# Altium footprint library BGA (1.0mm Pitch, Square5).PcbLib: 8 footprints (part 2 of 6)
Each footprint in its own frame and in the unit in brackets; x right, y up, seen from the top. Pads: shape width x height; smd on the part's side, far side on the other; paste and mask are expansions set on the pad; w line width, h text height; cw(c..) or ccw(c..) is an arc to the next point about the centre after c.
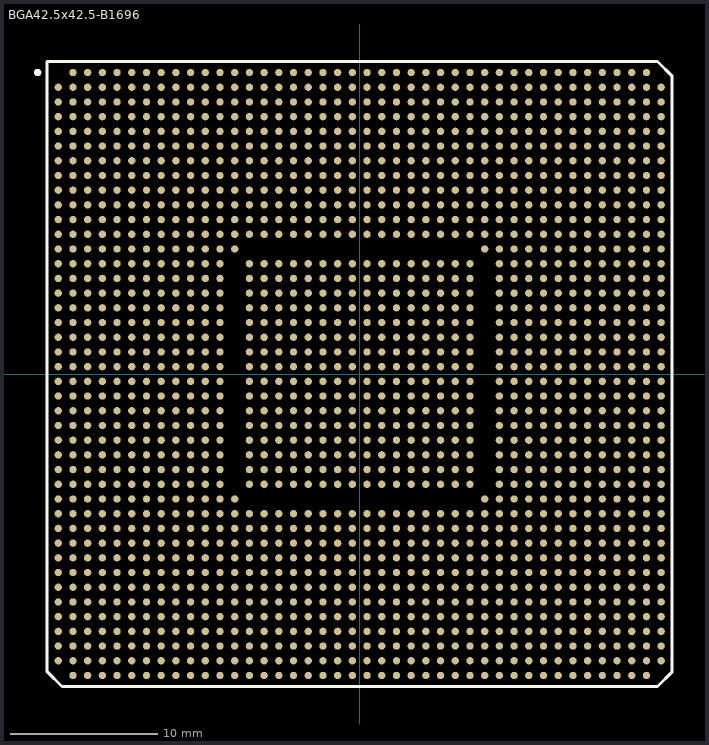
[diagram p1: the footprint, top view; thin cyan lines are the x and y axes]

## BGA42.5x42.5-B1696 [mm] "1696-Ball Flip-Chip Fine-Pitch Ball Grid Array (FF1696)"
height 3.45
pads (1696):
  round 0.5 smd: A2(-19.5,20.5) A3(-18.5,20.5) A4(-17.5,20.5) A5(-16.5,20.5) A6(-15.5,20.5) A7(-14.5,20.5) A8(-13.5,20.5) A9(-12.5,20.5) A10(-11.5,20.5) A11(-10.5,20.5) A12(-9.5,20.5) A13(-8.5,20.5) A14(-7.5,20.5) A15(-6.5,20.5) A16(-5.5,20.5) A17(-4.5,20.5) A18(-3.5,20.5) A19(-2.5,20.5) A20(-1.5,20.5) A21(-0.5,20.5) A22(0.5,20.5) A23(1.5,20.5) A24(2.5,20.5) A25(3.5,20.5) A26(4.5,20.5) A27(5.5,20.5) A28(6.5,20.5) A29(7.5,20.5) A30(8.5,20.5) A31(9.5,20.5) A32(10.5,20.5) A33(11.5,20.5) A34(12.5,20.5) A35(13.5,20.5) A36(14.5,20.5) A37(15.5,20.5) A38(16.5,20.5) A39(17.5,20.5) A40(18.5,20.5) A41(19.5,20.5) AA1(-20.5,0.5) AA2(-19.5,0.5) AA3(-18.5,0.5) AA4(-17.5,0.5) AA5(-16.5,0.5) AA6(-15.5,0.5) AA7(-14.5,0.5) AA8(-13.5,0.5) AA9(-12.5,0.5) AA10(-11.5,0.5) AA11(-10.5,0.5) AA12(-9.5,0.5) AA14(-7.5,0.5) AA15(-6.5,0.5) AA16(-5.5,0.5) AA17(-4.5,0.5) AA18(-3.5,0.5) AA19(-2.5,0.5) AA20(-1.5,0.5) AA21(-0.5,0.5) AA22(0.5,0.5) AA23(1.5,0.5) AA24(2.5,0.5) AA25(3.5,0.5) AA26(4.5,0.5) AA27(5.5,0.5) AA28(6.5,0.5) AA29(7.5,0.5) AA31(9.5,0.5) AA32(10.5,0.5) AA33(11.5,0.5) AA34(12.5,0.5) AA35(13.5,0.5) AA36(14.5,0.5) AA37(15.5,0.5) AA38(16.5,0.5) AA39(17.5,0.5) AA40(18.5,0.5) AA41(19.5,0.5) AA42(20.5,0.5) AB1(-20.5,-0.5) AB2(-19.5,-0.5) AB3(-18.5,-0.5) AB4(-17.5,-0.5) AB5(-16.5,-0.5) AB6(-15.5,-0.5) AB7(-14.5,-0.5) AB8(-13.5,-0.5) AB9(-12.5,-0.5) AB10(-11.5,-0.5) AB11(-10.5,-0.5) AB12(-9.5,-0.5) AB14(-7.5,-0.5) AB15(-6.5,-0.5) AB16(-5.5,-0.5) AB17(-4.5,-0.5) AB18(-3.5,-0.5) AB19(-2.5,-0.5) AB20(-1.5,-0.5) AB21(-0.5,-0.5) AB22(0.5,-0.5) AB23(1.5,-0.5) AB24(2.5,-0.5) AB25(3.5,-0.5) AB26(4.5,-0.5) AB27(5.5,-0.5) AB28(6.5,-0.5) AB29(7.5,-0.5) AB31(9.5,-0.5) AB32(10.5,-0.5) AB33(11.5,-0.5) AB34(12.5,-0.5) AB35(13.5,-0.5) AB36(14.5,-0.5) AB37(15.5,-0.5) AB38(16.5,-0.5) AB39(17.5,-0.5) AB40(18.5,-0.5) AB41(19.5,-0.5) AB42(20.5,-0.5) AC1(-20.5,-1.5) AC2(-19.5,-1.5) AC3(-18.5,-1.5) AC4(-17.5,-1.5) AC5(-16.5,-1.5) AC6(-15.5,-1.5) AC7(-14.5,-1.5) AC8(-13.5,-1.5) AC9(-12.5,-1.5) AC10(-11.5,-1.5) AC11(-10.5,-1.5) AC12(-9.5,-1.5) AC14(-7.5,-1.5) AC15(-6.5,-1.5) AC16(-5.5,-1.5) AC17(-4.5,-1.5) AC18(-3.5,-1.5) AC19(-2.5,-1.5) AC20(-1.5,-1.5) AC21(-0.5,-1.5) AC22(0.5,-1.5) AC23(1.5,-1.5) AC24(2.5,-1.5) AC25(3.5,-1.5) AC26(4.5,-1.5) AC27(5.5,-1.5) AC28(6.5,-1.5) AC29(7.5,-1.5) AC31(9.5,-1.5) AC32(10.5,-1.5) AC33(11.5,-1.5) AC34(12.5,-1.5) AC35(13.5,-1.5) AC36(14.5,-1.5) AC37(15.5,-1.5) AC38(16.5,-1.5) AC39(17.5,-1.5) AC40(18.5,-1.5) AC41(19.5,-1.5) AC42(20.5,-1.5) AD1(-20.5,-2.5) AD2(-19.5,-2.5) AD3(-18.5,-2.5) AD4(-17.5,-2.5) AD5(-16.5,-2.5) AD6(-15.5,-2.5) AD7(-14.5,-2.5) AD8(-13.5,-2.5) AD9(-12.5,-2.5) AD10(-11.5,-2.5) AD11(-10.5,-2.5) AD12(-9.5,-2.5) AD14(-7.5,-2.5) AD15(-6.5,-2.5) AD16(-5.5,-2.5) AD17(-4.5,-2.5) AD18(-3.5,-2.5) AD19(-2.5,-2.5) AD20(-1.5,-2.5) AD21(-0.5,-2.5) AD22(0.5,-2.5) AD23(1.5,-2.5) AD24(2.5,-2.5) AD25(3.5,-2.5) AD26(4.5,-2.5) AD27(5.5,-2.5) AD28(6.5,-2.5) AD29(7.5,-2.5) AD31(9.5,-2.5) AD32(10.5,-2.5) AD33(11.5,-2.5) AD34(12.5,-2.5) AD35(13.5,-2.5) AD36(14.5,-2.5) AD37(15.5,-2.5) AD38(16.5,-2.5) AD39(17.5,-2.5) AD40(18.5,-2.5) AD41(19.5,-2.5) AD42(20.5,-2.5) AE1(-20.5,-3.5) AE2(-19.5,-3.5) AE3(-18.5,-3.5) AE4(-17.5,-3.5) AE5(-16.5,-3.5) AE6(-15.5,-3.5) AE7(-14.5,-3.5) AE8(-13.5,-3.5) AE9(-12.5,-3.5) AE10(-11.5,-3.5) AE11(-10.5,-3.5) AE12(-9.5,-3.5) AE14(-7.5,-3.5) AE15(-6.5,-3.5) AE16(-5.5,-3.5) AE17(-4.5,-3.5) AE18(-3.5,-3.5) AE19(-2.5,-3.5) AE20(-1.5,-3.5) AE21(-0.5,-3.5) AE22(0.5,-3.5) AE23(1.5,-3.5) AE24(2.5,-3.5) AE25(3.5,-3.5) AE26(4.5,-3.5) AE27(5.5,-3.5) AE28(6.5,-3.5) AE29(7.5,-3.5) AE31(9.5,-3.5) AE32(10.5,-3.5) AE33(11.5,-3.5) AE34(12.5,-3.5) AE35(13.5,-3.5) AE36(14.5,-3.5) AE37(15.5,-3.5) AE38(16.5,-3.5) AE39(17.5,-3.5) AE40(18.5,-3.5) AE41(19.5,-3.5) AE42(20.5,-3.5) AF1(-20.5,-4.5) AF2(-19.5,-4.5) AF3(-18.5,-4.5) AF4(-17.5,-4.5) AF5(-16.5,-4.5) AF6(-15.5,-4.5) AF7(-14.5,-4.5) AF8(-13.5,-4.5) AF9(-12.5,-4.5) AF10(-11.5,-4.5) AF11(-10.5,-4.5) AF12(-9.5,-4.5) AF14(-7.5,-4.5) AF15(-6.5,-4.5) AF16(-5.5,-4.5) AF17(-4.5,-4.5) AF18(-3.5,-4.5) AF19(-2.5,-4.5) AF20(-1.5,-4.5) AF21(-0.5,-4.5) AF22(0.5,-4.5) AF23(1.5,-4.5) AF24(2.5,-4.5) AF25(3.5,-4.5) AF26(4.5,-4.5) AF27(5.5,-4.5) AF28(6.5,-4.5) AF29(7.5,-4.5) AF31(9.5,-4.5) AF32(10.5,-4.5) AF33(11.5,-4.5) AF34(12.5,-4.5) AF35(13.5,-4.5) AF36(14.5,-4.5) AF37(15.5,-4.5) AF38(16.5,-4.5) AF39(17.5,-4.5) AF40(18.5,-4.5) AF41(19.5,-4.5) AF42(20.5,-4.5) AG1(-20.5,-5.5) AG2(-19.5,-5.5) AG3(-18.5,-5.5) AG4(-17.5,-5.5) AG5(-16.5,-5.5) AG6(-15.5,-5.5) AG7(-14.5,-5.5) AG8(-13.5,-5.5) AG9(-12.5,-5.5) AG10(-11.5,-5.5) AG11(-10.5,-5.5) AG12(-9.5,-5.5) AG14(-7.5,-5.5) AG15(-6.5,-5.5) AG16(-5.5,-5.5) AG17(-4.5,-5.5) AG18(-3.5,-5.5) AG19(-2.5,-5.5) AG20(-1.5,-5.5) AG21(-0.5,-5.5) AG22(0.5,-5.5) AG23(1.5,-5.5) AG24(2.5,-5.5) AG25(3.5,-5.5) AG26(4.5,-5.5) AG27(5.5,-5.5) AG28(6.5,-5.5) AG29(7.5,-5.5) AG31(9.5,-5.5) AG32(10.5,-5.5) AG33(11.5,-5.5) AG34(12.5,-5.5) AG35(13.5,-5.5) AG36(14.5,-5.5) AG37(15.5,-5.5) AG38(16.5,-5.5) AG39(17.5,-5.5) AG40(18.5,-5.5) AG41(19.5,-5.5) AG42(20.5,-5.5) AH1(-20.5,-6.5) AH2(-19.5,-6.5) AH3(-18.5,-6.5) AH4(-17.5,-6.5) AH5(-16.5,-6.5) AH6(-15.5,-6.5) AH7(-14.5,-6.5) AH8(-13.5,-6.5) AH9(-12.5,-6.5) AH10(-11.5,-6.5) AH11(-10.5,-6.5) AH12(-9.5,-6.5) AH14(-7.5,-6.5) AH15(-6.5,-6.5) AH16(-5.5,-6.5) AH17(-4.5,-6.5) AH18(-3.5,-6.5) AH19(-2.5,-6.5) AH20(-1.5,-6.5) AH21(-0.5,-6.5) AH22(0.5,-6.5) AH23(1.5,-6.5) AH24(2.5,-6.5) AH25(3.5,-6.5) AH26(4.5,-6.5) AH27(5.5,-6.5) AH28(6.5,-6.5) AH29(7.5,-6.5) AH31(9.5,-6.5) AH32(10.5,-6.5) AH33(11.5,-6.5) AH34(12.5,-6.5) AH35(13.5,-6.5) AH36(14.5,-6.5) AH37(15.5,-6.5) AH38(16.5,-6.5) AH39(17.5,-6.5) AH40(18.5,-6.5) AH41(19.5,-6.5) AH42(20.5,-6.5) AJ1(-20.5,-7.5) AJ2(-19.5,-7.5) AJ3(-18.5,-7.5) AJ4(-17.5,-7.5) AJ5(-16.5,-7.5) AJ6(-15.5,-7.5) AJ7(-14.5,-7.5) AJ8(-13.5,-7.5) AJ9(-12.5,-7.5) AJ10(-11.5,-7.5) AJ11(-10.5,-7.5) AJ12(-9.5,-7.5) AJ14(-7.5,-7.5) AJ15(-6.5,-7.5) AJ16(-5.5,-7.5) AJ17(-4.5,-7.5) AJ18(-3.5,-7.5) AJ19(-2.5,-7.5) AJ20(-1.5,-7.5) AJ21(-0.5,-7.5) AJ22(0.5,-7.5) AJ23(1.5,-7.5) AJ24(2.5,-7.5) AJ25(3.5,-7.5) AJ26(4.5,-7.5) AJ27(5.5,-7.5) AJ28(6.5,-7.5) AJ29(7.5,-7.5) AJ31(9.5,-7.5) AJ32(10.5,-7.5) AJ33(11.5,-7.5) AJ34(12.5,-7.5) AJ35(13.5,-7.5) AJ36(14.5,-7.5) AJ37(15.5,-7.5) AJ38(16.5,-7.5) AJ39(17.5,-7.5) AJ40(18.5,-7.5) AJ41(19.5,-7.5) AJ42(20.5,-7.5) AK1(-20.5,-8.5) AK2(-19.5,-8.5) AK3(-18.5,-8.5) AK4(-17.5,-8.5) AK5(-16.5,-8.5) AK6(-15.5,-8.5) AK7(-14.5,-8.5) AK8(-13.5,-8.5) AK9(-12.5,-8.5) AK10(-11.5,-8.5) AK11(-10.5,-8.5) AK12(-9.5,-8.5) AK13(-8.5,-8.5) AK30(8.5,-8.5) AK31(9.5,-8.5) AK32(10.5,-8.5) AK33(11.5,-8.5) AK34(12.5,-8.5) AK35(13.5,-8.5) AK36(14.5,-8.5) AK37(15.5,-8.5) AK38(16.5,-8.5) AK39(17.5,-8.5) AK40(18.5,-8.5) AK41(19.5,-8.5) AK42(20.5,-8.5) AL1(-20.5,-9.5) AL2(-19.5,-9.5) AL3(-18.5,-9.5) AL4(-17.5,-9.5) AL5(-16.5,-9.5) AL6(-15.5,-9.5) AL7(-14.5,-9.5) AL8(-13.5,-9.5) AL9(-12.5,-9.5) AL10(-11.5,-9.5) AL11(-10.5,-9.5) AL12(-9.5,-9.5) AL13(-8.5,-9.5) AL14(-7.5,-9.5) AL15(-6.5,-9.5) AL16(-5.5,-9.5) AL17(-4.5,-9.5) AL18(-3.5,-9.5) AL19(-2.5,-9.5) AL20(-1.5,-9.5) AL21(-0.5,-9.5) AL22(0.5,-9.5) AL23(1.5,-9.5) AL24(2.5,-9.5) AL25(3.5,-9.5) AL26(4.5,-9.5) AL27(5.5,-9.5) AL28(6.5,-9.5) AL29(7.5,-9.5) AL30(8.5,-9.5) AL31(9.5,-9.5) AL32(10.5,-9.5) AL33(11.5,-9.5) AL34(12.5,-9.5) AL35(13.5,-9.5) AL36(14.5,-9.5) AL37(15.5,-9.5) AL38(16.5,-9.5) AL39(17.5,-9.5) AL40(18.5,-9.5) AL41(19.5,-9.5) AL42(20.5,-9.5) AM1(-20.5,-10.5) AM2(-19.5,-10.5) AM3(-18.5,-10.5) AM4(-17.5,-10.5) AM5(-16.5,-10.5) AM6(-15.5,-10.5) AM7(-14.5,-10.5) AM8(-13.5,-10.5) AM9(-12.5,-10.5) AM10(-11.5,-10.5) AM11(-10.5,-10.5) AM12(-9.5,-10.5) AM13(-8.5,-10.5) AM14(-7.5,-10.5) AM15(-6.5,-10.5) AM16(-5.5,-10.5) AM17(-4.5,-10.5) AM18(-3.5,-10.5) AM19(-2.5,-10.5) AM20(-1.5,-10.5) AM21(-0.5,-10.5) AM22(0.5,-10.5) AM23(1.5,-10.5) AM24(2.5,-10.5) AM25(3.5,-10.5) AM26(4.5,-10.5) AM27(5.5,-10.5) AM28(6.5,-10.5) AM29(7.5,-10.5) AM30(8.5,-10.5) AM31(9.5,-10.5) AM32(10.5,-10.5) AM33(11.5,-10.5) AM34(12.5,-10.5) AM35(13.5,-10.5) AM36(14.5,-10.5) AM37(15.5,-10.5) AM38(16.5,-10.5) AM39(17.5,-10.5) AM40(18.5,-10.5) AM41(19.5,-10.5) AM42(20.5,-10.5) AN1(-20.5,-11.5) AN2(-19.5,-11.5) AN3(-18.5,-11.5) AN4(-17.5,-11.5) AN5(-16.5,-11.5) AN6(-15.5,-11.5) AN7(-14.5,-11.5) AN8(-13.5,-11.5) AN9(-12.5,-11.5) AN10(-11.5,-11.5) AN11(-10.5,-11.5) AN12(-9.5,-11.5) AN13(-8.5,-11.5) AN14(-7.5,-11.5) AN15(-6.5,-11.5) AN16(-5.5,-11.5) AN17(-4.5,-11.5) AN18(-3.5,-11.5) AN19(-2.5,-11.5) AN20(-1.5,-11.5) AN21(-0.5,-11.5) AN22(0.5,-11.5) AN23(1.5,-11.5) AN24(2.5,-11.5) AN25(3.5,-11.5) AN26(4.5,-11.5) AN27(5.5,-11.5) AN28(6.5,-11.5) AN29(7.5,-11.5) AN30(8.5,-11.5) AN31(9.5,-11.5) AN32(10.5,-11.5) AN33(11.5,-11.5) AN34(12.5,-11.5) AN35(13.5,-11.5) AN36(14.5,-11.5) AN37(15.5,-11.5) AN38(16.5,-11.5) AN39(17.5,-11.5) AN40(18.5,-11.5) AN41(19.5,-11.5) AN42(20.5,-11.5) AP1(-20.5,-12.5) AP2(-19.5,-12.5) AP3(-18.5,-12.5) AP4(-17.5,-12.5) AP5(-16.5,-12.5) AP6(-15.5,-12.5) AP7(-14.5,-12.5) AP8(-13.5,-12.5) AP9(-12.5,-12.5) AP10(-11.5,-12.5) AP11(-10.5,-12.5) AP12(-9.5,-12.5) AP13(-8.5,-12.5) AP14(-7.5,-12.5) AP15(-6.5,-12.5) AP16(-5.5,-12.5) AP17(-4.5,-12.5) AP18(-3.5,-12.5) AP19(-2.5,-12.5) AP20(-1.5,-12.5) AP21(-0.5,-12.5) AP22(0.5,-12.5) AP23(1.5,-12.5) AP24(2.5,-12.5) AP25(3.5,-12.5) AP26(4.5,-12.5) AP27(5.5,-12.5) AP28(6.5,-12.5) AP29(7.5,-12.5) AP30(8.5,-12.5) AP31(9.5,-12.5) AP32(10.5,-12.5) AP33(11.5,-12.5) AP34(12.5,-12.5) AP35(13.5,-12.5) AP36(14.5,-12.5) AP37(15.5,-12.5) AP38(16.5,-12.5) AP39(17.5,-12.5) AP40(18.5,-12.5) AP41(19.5,-12.5) AP42(20.5,-12.5) AR1(-20.5,-13.5) AR2(-19.5,-13.5) AR3(-18.5,-13.5) AR4(-17.5,-13.5) AR5(-16.5,-13.5) AR6(-15.5,-13.5) AR7(-14.5,-13.5) AR8(-13.5,-13.5) AR9(-12.5,-13.5) AR10(-11.5,-13.5) AR11(-10.5,-13.5) AR12(-9.5,-13.5) AR13(-8.5,-13.5) AR14(-7.5,-13.5) AR15(-6.5,-13.5) AR16(-5.5,-13.5) AR17(-4.5,-13.5) AR18(-3.5,-13.5) AR19(-2.5,-13.5) AR20(-1.5,-13.5) AR21(-0.5,-13.5) AR22(0.5,-13.5) AR23(1.5,-13.5) AR24(2.5,-13.5) AR25(3.5,-13.5) AR26(4.5,-13.5) AR27(5.5,-13.5) AR28(6.5,-13.5) AR29(7.5,-13.5) AR30(8.5,-13.5) AR31(9.5,-13.5) AR32(10.5,-13.5) AR33(11.5,-13.5) AR34(12.5,-13.5) AR35(13.5,-13.5) AR36(14.5,-13.5) AR37(15.5,-13.5) AR38(16.5,-13.5) AR39(17.5,-13.5) AR40(18.5,-13.5) AR41(19.5,-13.5) AR42(20.5,-13.5) AT1(-20.5,-14.5) AT2(-19.5,-14.5) AT3(-18.5,-14.5) AT4(-17.5,-14.5) AT5(-16.5,-14.5) AT6(-15.5,-14.5) AT7(-14.5,-14.5) AT8(-13.5,-14.5) AT9(-12.5,-14.5) AT10(-11.5,-14.5) AT11(-10.5,-14.5) AT12(-9.5,-14.5) AT13(-8.5,-14.5) AT14(-7.5,-14.5) AT15(-6.5,-14.5) AT16(-5.5,-14.5) AT17(-4.5,-14.5) AT18(-3.5,-14.5) AT19(-2.5,-14.5) AT20(-1.5,-14.5) AT21(-0.5,-14.5) AT22(0.5,-14.5) AT23(1.5,-14.5) AT24(2.5,-14.5) AT25(3.5,-14.5) AT26(4.5,-14.5) AT27(5.5,-14.5) AT28(6.5,-14.5) AT29(7.5,-14.5) AT30(8.5,-14.5) AT31(9.5,-14.5) AT32(10.5,-14.5) AT33(11.5,-14.5) AT34(12.5,-14.5) AT35(13.5,-14.5) AT36(14.5,-14.5) AT37(15.5,-14.5) AT38(16.5,-14.5) AT39(17.5,-14.5) AT40(18.5,-14.5) AT41(19.5,-14.5) AT42(20.5,-14.5) AU1(-20.5,-15.5) AU2(-19.5,-15.5) AU3(-18.5,-15.5) AU4(-17.5,-15.5) AU5(-16.5,-15.5) AU6(-15.5,-15.5) AU7(-14.5,-15.5) AU8(-13.5,-15.5) AU9(-12.5,-15.5) AU10(-11.5,-15.5) AU11(-10.5,-15.5) AU12(-9.5,-15.5) AU13(-8.5,-15.5) AU14(-7.5,-15.5) AU15(-6.5,-15.5) AU16(-5.5,-15.5) AU17(-4.5,-15.5) AU18(-3.5,-15.5) AU19(-2.5,-15.5) AU20(-1.5,-15.5) AU21(-0.5,-15.5) AU22(0.5,-15.5) AU23(1.5,-15.5) AU24(2.5,-15.5) AU25(3.5,-15.5) AU26(4.5,-15.5) AU27(5.5,-15.5) AU28(6.5,-15.5) AU29(7.5,-15.5) AU30(8.5,-15.5) AU31(9.5,-15.5) AU32(10.5,-15.5) AU33(11.5,-15.5) AU34(12.5,-15.5) AU35(13.5,-15.5) AU36(14.5,-15.5) AU37(15.5,-15.5) AU38(16.5,-15.5) AU39(17.5,-15.5) AU40(18.5,-15.5) AU41(19.5,-15.5) AU42(20.5,-15.5) AV1(-20.5,-16.5) AV2(-19.5,-16.5) AV3(-18.5,-16.5) AV4(-17.5,-16.5) AV5(-16.5,-16.5) AV6(-15.5,-16.5) AV7(-14.5,-16.5) AV8(-13.5,-16.5) AV9(-12.5,-16.5) AV10(-11.5,-16.5) AV11(-10.5,-16.5) AV12(-9.5,-16.5) AV13(-8.5,-16.5) AV14(-7.5,-16.5) AV15(-6.5,-16.5) AV16(-5.5,-16.5) AV17(-4.5,-16.5) AV18(-3.5,-16.5) AV19(-2.5,-16.5) AV20(-1.5,-16.5) AV21(-0.5,-16.5) AV22(0.5,-16.5) AV23(1.5,-16.5) AV24(2.5,-16.5) AV25(3.5,-16.5) AV26(4.5,-16.5) AV27(5.5,-16.5) AV28(6.5,-16.5) AV29(7.5,-16.5) AV30(8.5,-16.5) AV31(9.5,-16.5) AV32(10.5,-16.5) AV33(11.5,-16.5) AV34(12.5,-16.5) AV35(13.5,-16.5) AV36(14.5,-16.5) AV37(15.5,-16.5) AV38(16.5,-16.5) AV39(17.5,-16.5) AV40(18.5,-16.5) AV41(19.5,-16.5) AV42(20.5,-16.5) AW1(-20.5,-17.5) AW2(-19.5,-17.5) AW3(-18.5,-17.5) AW4(-17.5,-17.5) AW5(-16.5,-17.5) AW6(-15.5,-17.5) AW7(-14.5,-17.5) AW8(-13.5,-17.5) AW9(-12.5,-17.5) AW10(-11.5,-17.5) AW11(-10.5,-17.5) AW12(-9.5,-17.5) AW13(-8.5,-17.5) AW14(-7.5,-17.5) AW15(-6.5,-17.5) AW16(-5.5,-17.5) AW17(-4.5,-17.5) AW18(-3.5,-17.5) AW19(-2.5,-17.5) AW20(-1.5,-17.5) AW21(-0.5,-17.5) AW22(0.5,-17.5) AW23(1.5,-17.5) AW24(2.5,-17.5) AW25(3.5,-17.5) AW26(4.5,-17.5) AW27(5.5,-17.5) AW28(6.5,-17.5) AW29(7.5,-17.5) AW30(8.5,-17.5) AW31(9.5,-17.5) AW32(10.5,-17.5) AW33(11.5,-17.5) AW34(12.5,-17.5) AW35(13.5,-17.5) AW36(14.5,-17.5) AW37(15.5,-17.5) AW38(16.5,-17.5) AW39(17.5,-17.5) AW40(18.5,-17.5) AW41(19.5,-17.5) AW42(20.5,-17.5) AY1(-20.5,-18.5) AY2(-19.5,-18.5) AY3(-18.5,-18.5) AY4(-17.5,-18.5) AY5(-16.5,-18.5) AY6(-15.5,-18.5) AY7(-14.5,-18.5) AY8(-13.5,-18.5) AY9(-12.5,-18.5) AY10(-11.5,-18.5) AY11(-10.5,-18.5) AY12(-9.5,-18.5) AY13(-8.5,-18.5) AY14(-7.5,-18.5) AY15(-6.5,-18.5) AY16(-5.5,-18.5) AY17(-4.5,-18.5) AY18(-3.5,-18.5) AY19(-2.5,-18.5) AY20(-1.5,-18.5) AY21(-0.5,-18.5) AY22(0.5,-18.5) AY23(1.5,-18.5) AY24(2.5,-18.5) AY25(3.5,-18.5) AY26(4.5,-18.5) AY27(5.5,-18.5) AY28(6.5,-18.5) AY29(7.5,-18.5) AY30(8.5,-18.5) AY31(9.5,-18.5) AY32(10.5,-18.5) AY33(11.5,-18.5) AY34(12.5,-18.5) AY35(13.5,-18.5) AY36(14.5,-18.5) AY37(15.5,-18.5) AY38(16.5,-18.5) AY39(17.5,-18.5) AY40(18.5,-18.5) AY41(19.5,-18.5) AY42(20.5,-18.5) B1(-20.5,19.5) B2(-19.5,19.5) B3(-18.5,19.5) B4(-17.5,19.5) B5(-16.5,19.5) B6(-15.5,19.5) B7(-14.5,19.5) B8(-13.5,19.5) B9(-12.5,19.5) B10(-11.5,19.5) B11(-10.5,19.5) B12(-9.5,19.5) B13(-8.5,19.5) B14(-7.5,19.5) B15(-6.5,19.5) B16(-5.5,19.5) B17(-4.5,19.5) B18(-3.5,19.5) B19(-2.5,19.5) B20(-1.5,19.5) B21(-0.5,19.5) B22(0.5,19.5) B23(1.5,19.5) B24(2.5,19.5) B25(3.5,19.5) B26(4.5,19.5) B27(5.5,19.5) B28(6.5,19.5) B29(7.5,19.5) B30(8.5,19.5) B31(9.5,19.5) B32(10.5,19.5) B33(11.5,19.5) B34(12.5,19.5) B35(13.5,19.5) B36(14.5,19.5) B37(15.5,19.5) B38(16.5,19.5) B39(17.5,19.5) B40(18.5,19.5) B41(19.5,19.5) B42(20.5,19.5) BA1(-20.5,-19.5) BA2(-19.5,-19.5) BA3(-18.5,-19.5) BA4(-17.5,-19.5) BA5(-16.5,-19.5) BA6(-15.5,-19.5) BA7(-14.5,-19.5) BA8(-13.5,-19.5) BA9(-12.5,-19.5) BA10(-11.5,-19.5) BA11(-10.5,-19.5) BA12(-9.5,-19.5) BA13(-8.5,-19.5) BA14(-7.5,-19.5) BA15(-6.5,-19.5) BA16(-5.5,-19.5) BA17(-4.5,-19.5) BA18(-3.5,-19.5) BA19(-2.5,-19.5) BA20(-1.5,-19.5) BA21(-0.5,-19.5) BA22(0.5,-19.5) BA23(1.5,-19.5) BA24(2.5,-19.5) BA25(3.5,-19.5) BA26(4.5,-19.5) BA27(5.5,-19.5) BA28(6.5,-19.5) BA29(7.5,-19.5) BA30(8.5,-19.5) BA31(9.5,-19.5) BA32(10.5,-19.5) BA33(11.5,-19.5) BA34(12.5,-19.5) BA35(13.5,-19.5) BA36(14.5,-19.5) BA37(15.5,-19.5) BA38(16.5,-19.5) BA39(17.5,-19.5) BA40(18.5,-19.5) BA41(19.5,-19.5) BA42(20.5,-19.5) BB2(-19.5,-20.5) BB3(-18.5,-20.5) BB4(-17.5,-20.5) BB5(-16.5,-20.5) BB6(-15.5,-20.5) BB7(-14.5,-20.5) BB8(-13.5,-20.5) BB9(-12.5,-20.5) BB10(-11.5,-20.5) BB11(-10.5,-20.5) BB12(-9.5,-20.5) BB13(-8.5,-20.5) BB14(-7.5,-20.5) BB15(-6.5,-20.5) BB16(-5.5,-20.5) BB17(-4.5,-20.5) BB18(-3.5,-20.5) BB19(-2.5,-20.5) BB20(-1.5,-20.5) BB21(-0.5,-20.5) BB22(0.5,-20.5) BB23(1.5,-20.5) BB24(2.5,-20.5) BB25(3.5,-20.5) BB26(4.5,-20.5) BB27(5.5,-20.5) BB28(6.5,-20.5) BB29(7.5,-20.5) BB30(8.5,-20.5) BB31(9.5,-20.5) BB32(10.5,-20.5) BB33(11.5,-20.5) BB34(12.5,-20.5) BB35(13.5,-20.5) BB36(14.5,-20.5) BB37(15.5,-20.5) BB38(16.5,-20.5) BB39(17.5,-20.5) BB40(18.5,-20.5) BB41(19.5,-20.5) C1(-20.5,18.5) C2(-19.5,18.5) C3(-18.5,18.5) C4(-17.5,18.5) C5(-16.5,18.5) C6(-15.5,18.5) C7(-14.5,18.5) C8(-13.5,18.5) C9(-12.5,18.5) C10(-11.5,18.5) C11(-10.5,18.5) C12(-9.5,18.5) C13(-8.5,18.5) C14(-7.5,18.5) C15(-6.5,18.5) C16(-5.5,18.5) C17(-4.5,18.5) C18(-3.5,18.5) C19(-2.5,18.5) C20(-1.5,18.5) C21(-0.5,18.5) C22(0.5,18.5) C23(1.5,18.5) C24(2.5,18.5) C25(3.5,18.5) C26(4.5,18.5) C27(5.5,18.5) C28(6.5,18.5) C29(7.5,18.5) C30(8.5,18.5) C31(9.5,18.5) C32(10.5,18.5) C33(11.5,18.5) C34(12.5,18.5) C35(13.5,18.5) C36(14.5,18.5) C37(15.5,18.5) C38(16.5,18.5) C39(17.5,18.5) C40(18.5,18.5) C41(19.5,18.5) C42(20.5,18.5) D1(-20.5,17.5) D2(-19.5,17.5) D3(-18.5,17.5) D4(-17.5,17.5) D5(-16.5,17.5) D6(-15.5,17.5) D7(-14.5,17.5) D8(-13.5,17.5) D9(-12.5,17.5) D10(-11.5,17.5) D11(-10.5,17.5) D12(-9.5,17.5) D13(-8.5,17.5) D14(-7.5,17.5) D15(-6.5,17.5) D16(-5.5,17.5) D17(-4.5,17.5) D18(-3.5,17.5) D19(-2.5,17.5) D20(-1.5,17.5) D21(-0.5,17.5) D22(0.5,17.5) D23(1.5,17.5) D24(2.5,17.5) D25(3.5,17.5) D26(4.5,17.5) D27(5.5,17.5) D28(6.5,17.5) D29(7.5,17.5) D30(8.5,17.5) D31(9.5,17.5) D32(10.5,17.5) D33(11.5,17.5) D34(12.5,17.5) D35(13.5,17.5) D36(14.5,17.5) D37(15.5,17.5) D38(16.5,17.5) D39(17.5,17.5) D40(18.5,17.5) D41(19.5,17.5) D42(20.5,17.5) E1(-20.5,16.5) E2(-19.5,16.5) E3(-18.5,16.5) E4(-17.5,16.5) E5(-16.5,16.5) E6(-15.5,16.5) E7(-14.5,16.5) E8(-13.5,16.5) E9(-12.5,16.5) E10(-11.5,16.5) E11(-10.5,16.5) E12(-9.5,16.5) E13(-8.5,16.5) E14(-7.5,16.5) E15(-6.5,16.5) E16(-5.5,16.5) E17(-4.5,16.5) E18(-3.5,16.5) E19(-2.5,16.5) E20(-1.5,16.5) E21(-0.5,16.5) E22(0.5,16.5) E23(1.5,16.5) E24(2.5,16.5) E25(3.5,16.5) E26(4.5,16.5) E27(5.5,16.5) E28(6.5,16.5) E29(7.5,16.5) E30(8.5,16.5) E31(9.5,16.5) E32(10.5,16.5) E33(11.5,16.5) E34(12.5,16.5) E35(13.5,16.5) E36(14.5,16.5) E37(15.5,16.5) E38(16.5,16.5) E39(17.5,16.5) E40(18.5,16.5) E41(19.5,16.5) E42(20.5,16.5) F1(-20.5,15.5) F2(-19.5,15.5) F3(-18.5,15.5) F4(-17.5,15.5) F5(-16.5,15.5) F6(-15.5,15.5) F7(-14.5,15.5) F8(-13.5,15.5) F9(-12.5,15.5) F10(-11.5,15.5) F11(-10.5,15.5) F12(-9.5,15.5) F13(-8.5,15.5) F14(-7.5,15.5) F15(-6.5,15.5) F16(-5.5,15.5) F17(-4.5,15.5) F18(-3.5,15.5) F19(-2.5,15.5) F20(-1.5,15.5) F21(-0.5,15.5) F22(0.5,15.5) F23(1.5,15.5) F24(2.5,15.5) F25(3.5,15.5) F26(4.5,15.5) F27(5.5,15.5) F28(6.5,15.5) F29(7.5,15.5) F30(8.5,15.5) F31(9.5,15.5) F32(10.5,15.5) F33(11.5,15.5) F34(12.5,15.5) F35(13.5,15.5) F36(14.5,15.5) F37(15.5,15.5) F38(16.5,15.5) F39(17.5,15.5) F40(18.5,15.5) F41(19.5,15.5) F42(20.5,15.5) G1(-20.5,14.5) G2(-19.5,14.5) G3(-18.5,14.5) G4(-17.5,14.5) G5(-16.5,14.5) G6(-15.5,14.5) G7(-14.5,14.5) G8(-13.5,14.5) G9(-12.5,14.5) G10(-11.5,14.5) G11(-10.5,14.5) G12(-9.5,14.5) G13(-8.5,14.5) G14(-7.5,14.5) G15(-6.5,14.5) G16(-5.5,14.5) G17(-4.5,14.5) G18(-3.5,14.5) G19(-2.5,14.5) G20(-1.5,14.5) G21(-0.5,14.5) G22(0.5,14.5) G23(1.5,14.5) G24(2.5,14.5) G25(3.5,14.5) G26(4.5,14.5) G27(5.5,14.5) G28(6.5,14.5) G29(7.5,14.5) G30(8.5,14.5) G31(9.5,14.5) G32(10.5,14.5) G33(11.5,14.5) G34(12.5,14.5) G35(13.5,14.5) G36(14.5,14.5) G37(15.5,14.5) G38(16.5,14.5) G39(17.5,14.5) G40(18.5,14.5) G41(19.5,14.5) G42(20.5,14.5) H1(-20.5,13.5) H2(-19.5,13.5) H3(-18.5,13.5) H4(-17.5,13.5) H5(-16.5,13.5) H6(-15.5,13.5) H7(-14.5,13.5) H8(-13.5,13.5) H9(-12.5,13.5) H10(-11.5,13.5) H11(-10.5,13.5) H12(-9.5,13.5) H13(-8.5,13.5) H14(-7.5,13.5) H15(-6.5,13.5) H16(-5.5,13.5) H17(-4.5,13.5) H18(-3.5,13.5) H19(-2.5,13.5) H20(-1.5,13.5) H21(-0.5,13.5) H22(0.5,13.5) H23(1.5,13.5) H24(2.5,13.5) H25(3.5,13.5) H26(4.5,13.5) H27(5.5,13.5) H28(6.5,13.5) H29(7.5,13.5) H30(8.5,13.5) H31(9.5,13.5) H32(10.5,13.5) H33(11.5,13.5) H34(12.5,13.5) H35(13.5,13.5) H36(14.5,13.5) H37(15.5,13.5) H38(16.5,13.5) H39(17.5,13.5) H40(18.5,13.5) H41(19.5,13.5) H42(20.5,13.5) J1(-20.5,12.5) J2(-19.5,12.5) J3(-18.5,12.5) J4(-17.5,12.5) J5(-16.5,12.5) J6(-15.5,12.5) J7(-14.5,12.5) J8(-13.5,12.5) J9(-12.5,12.5) J10(-11.5,12.5) J11(-10.5,12.5) J12(-9.5,12.5) J13(-8.5,12.5) J14(-7.5,12.5) J15(-6.5,12.5) J16(-5.5,12.5) J17(-4.5,12.5) J18(-3.5,12.5) J19(-2.5,12.5) J20(-1.5,12.5) J21(-0.5,12.5) J22(0.5,12.5) J23(1.5,12.5) J24(2.5,12.5) J25(3.5,12.5) J26(4.5,12.5) J27(5.5,12.5) J28(6.5,12.5) J29(7.5,12.5) J30(8.5,12.5) J31(9.5,12.5) J32(10.5,12.5) J33(11.5,12.5) J34(12.5,12.5) J35(13.5,12.5) J36(14.5,12.5) J37(15.5,12.5) J38(16.5,12.5) J39(17.5,12.5) J40(18.5,12.5) J41(19.5,12.5) J42(20.5,12.5) K1(-20.5,11.5) K2(-19.5,11.5) K3(-18.5,11.5) K4(-17.5,11.5) K5(-16.5,11.5) K6(-15.5,11.5) K7(-14.5,11.5) K8(-13.5,11.5) K9(-12.5,11.5) K10(-11.5,11.5) K11(-10.5,11.5) K12(-9.5,11.5) K13(-8.5,11.5) K14(-7.5,11.5) K15(-6.5,11.5) K16(-5.5,11.5) K17(-4.5,11.5) K18(-3.5,11.5) K19(-2.5,11.5) K20(-1.5,11.5) K21(-0.5,11.5) K22(0.5,11.5) K23(1.5,11.5) K24(2.5,11.5) K25(3.5,11.5) K26(4.5,11.5) K27(5.5,11.5) K28(6.5,11.5) K29(7.5,11.5) K30(8.5,11.5) K31(9.5,11.5) K32(10.5,11.5) K33(11.5,11.5) K34(12.5,11.5) K35(13.5,11.5) K36(14.5,11.5) K37(15.5,11.5) K38(16.5,11.5) K39(17.5,11.5) K40(18.5,11.5) K41(19.5,11.5) K42(20.5,11.5) L1(-20.5,10.5) L2(-19.5,10.5) L3(-18.5,10.5) L4(-17.5,10.5) L5(-16.5,10.5) L6(-15.5,10.5) L7(-14.5,10.5) L8(-13.5,10.5) L9(-12.5,10.5) L10(-11.5,10.5) L11(-10.5,10.5) L12(-9.5,10.5) L13(-8.5,10.5) L14(-7.5,10.5) L15(-6.5,10.5) L16(-5.5,10.5) L17(-4.5,10.5) L18(-3.5,10.5) L19(-2.5,10.5) L20(-1.5,10.5) L21(-0.5,10.5) L22(0.5,10.5) L23(1.5,10.5) L24(2.5,10.5) L25(3.5,10.5) L26(4.5,10.5) L27(5.5,10.5) L28(6.5,10.5) L29(7.5,10.5) L30(8.5,10.5) L31(9.5,10.5) L32(10.5,10.5) L33(11.5,10.5) L34(12.5,10.5) L35(13.5,10.5) L36(14.5,10.5) L37(15.5,10.5) L38(16.5,10.5) L39(17.5,10.5) L40(18.5,10.5) L41(19.5,10.5) L42(20.5,10.5) M1(-20.5,9.5) M2(-19.5,9.5) M3(-18.5,9.5) M4(-17.5,9.5) M5(-16.5,9.5) M6(-15.5,9.5) M7(-14.5,9.5) M8(-13.5,9.5) M9(-12.5,9.5) M10(-11.5,9.5) M11(-10.5,9.5) M12(-9.5,9.5) M13(-8.5,9.5) M14(-7.5,9.5) M15(-6.5,9.5) M16(-5.5,9.5) M17(-4.5,9.5) M18(-3.5,9.5) M19(-2.5,9.5) M20(-1.5,9.5) M21(-0.5,9.5) M22(0.5,9.5) M23(1.5,9.5) M24(2.5,9.5) M25(3.5,9.5) M26(4.5,9.5) M27(5.5,9.5) M28(6.5,9.5) M29(7.5,9.5) M30(8.5,9.5) M31(9.5,9.5) M32(10.5,9.5) M33(11.5,9.5) M34(12.5,9.5) M35(13.5,9.5) M36(14.5,9.5) M37(15.5,9.5) M38(16.5,9.5) M39(17.5,9.5) M40(18.5,9.5) M41(19.5,9.5) M42(20.5,9.5) N1(-20.5,8.5) N2(-19.5,8.5) N3(-18.5,8.5) N4(-17.5,8.5) N5(-16.5,8.5) N6(-15.5,8.5) N7(-14.5,8.5) N8(-13.5,8.5) N9(-12.5,8.5) N10(-11.5,8.5) N11(-10.5,8.5) N12(-9.5,8.5) N13(-8.5,8.5) N30(8.5,8.5) N31(9.5,8.5) N32(10.5,8.5) N33(11.5,8.5) N34(12.5,8.5) N35(13.5,8.5) N36(14.5,8.5) N37(15.5,8.5) N38(16.5,8.5) N39(17.5,8.5) N40(18.5,8.5) N41(19.5,8.5) N42(20.5,8.5) P1(-20.5,7.5) P2(-19.5,7.5) P3(-18.5,7.5) P4(-17.5,7.5) P5(-16.5,7.5) P6(-15.5,7.5) P7(-14.5,7.5) P8(-13.5,7.5) P9(-12.5,7.5) P10(-11.5,7.5) P11(-10.5,7.5) P12(-9.5,7.5) P14(-7.5,7.5) P15(-6.5,7.5) P16(-5.5,7.5) P17(-4.5,7.5) P18(-3.5,7.5) P19(-2.5,7.5) P20(-1.5,7.5) P21(-0.5,7.5) P22(0.5,7.5) P23(1.5,7.5) P24(2.5,7.5) P25(3.5,7.5) P26(4.5,7.5) P27(5.5,7.5) P28(6.5,7.5) P29(7.5,7.5) P31(9.5,7.5) P32(10.5,7.5) P33(11.5,7.5) P34(12.5,7.5) P35(13.5,7.5) P36(14.5,7.5) P37(15.5,7.5) P38(16.5,7.5) P39(17.5,7.5) P40(18.5,7.5) P41(19.5,7.5) P42(20.5,7.5) R1(-20.5,6.5) R2(-19.5,6.5) R3(-18.5,6.5) R4(-17.5,6.5) R5(-16.5,6.5) R6(-15.5,6.5) R7(-14.5,6.5) R8(-13.5,6.5) R9(-12.5,6.5) R10(-11.5,6.5) R11(-10.5,6.5) R12(-9.5,6.5) R14(-7.5,6.5) R15(-6.5,6.5) R16(-5.5,6.5) R17(-4.5,6.5) R18(-3.5,6.5) R19(-2.5,6.5) R20(-1.5,6.5) R21(-0.5,6.5) R22(0.5,6.5) R23(1.5,6.5) R24(2.5,6.5) R25(3.5,6.5) R26(4.5,6.5) R27(5.5,6.5) R28(6.5,6.5) R29(7.5,6.5) R31(9.5,6.5) R32(10.5,6.5) R33(11.5,6.5) R34(12.5,6.5) R35(13.5,6.5) R36(14.5,6.5) R37(15.5,6.5) R38(16.5,6.5) R39(17.5,6.5) R40(18.5,6.5) R41(19.5,6.5) R42(20.5,6.5) T1(-20.5,5.5) T2(-19.5,5.5) T3(-18.5,5.5) T4(-17.5,5.5) T5(-16.5,5.5) T6(-15.5,5.5) T7(-14.5,5.5) T8(-13.5,5.5) T9(-12.5,5.5) T10(-11.5,5.5) T11(-10.5,5.5) T12(-9.5,5.5) T14(-7.5,5.5) T15(-6.5,5.5) T16(-5.5,5.5) T17(-4.5,5.5) T18(-3.5,5.5) T19(-2.5,5.5) T20(-1.5,5.5) T21(-0.5,5.5) T22(0.5,5.5) T23(1.5,5.5) T24(2.5,5.5) T25(3.5,5.5) T26(4.5,5.5) T27(5.5,5.5) T28(6.5,5.5) T29(7.5,5.5) T31(9.5,5.5) T32(10.5,5.5) T33(11.5,5.5) T34(12.5,5.5) T35(13.5,5.5) T36(14.5,5.5) T37(15.5,5.5) T38(16.5,5.5) T39(17.5,5.5) T40(18.5,5.5) T41(19.5,5.5) T42(20.5,5.5) U1(-20.5,4.5) U2(-19.5,4.5) U3(-18.5,4.5) U4(-17.5,4.5) U5(-16.5,4.5) U6(-15.5,4.5) U7(-14.5,4.5) U8(-13.5,4.5) U9(-12.5,4.5) U10(-11.5,4.5) U11(-10.5,4.5) U12(-9.5,4.5) U14(-7.5,4.5) U15(-6.5,4.5) U16(-5.5,4.5) U17(-4.5,4.5) U18(-3.5,4.5) U19(-2.5,4.5) U20(-1.5,4.5) U21(-0.5,4.5) U22(0.5,4.5) U23(1.5,4.5) U24(2.5,4.5) U25(3.5,4.5) U26(4.5,4.5) U27(5.5,4.5) U28(6.5,4.5) U29(7.5,4.5) U31(9.5,4.5) U32(10.5,4.5) U33(11.5,4.5) U34(12.5,4.5) U35(13.5,4.5) U36(14.5,4.5) U37(15.5,4.5) U38(16.5,4.5) U39(17.5,4.5) U40(18.5,4.5) U41(19.5,4.5) U42(20.5,4.5) V1(-20.5,3.5) V2(-19.5,3.5) V3(-18.5,3.5) V4(-17.5,3.5) V5(-16.5,3.5) V6(-15.5,3.5) V7(-14.5,3.5) V8(-13.5,3.5) V9(-12.5,3.5) V10(-11.5,3.5) V11(-10.5,3.5) V12(-9.5,3.5) V14(-7.5,3.5) V15(-6.5,3.5) V16(-5.5,3.5) V17(-4.5,3.5) V18(-3.5,3.5) V19(-2.5,3.5) V20(-1.5,3.5) V21(-0.5,3.5) V22(0.5,3.5) V23(1.5,3.5) V24(2.5,3.5) V25(3.5,3.5) V26(4.5,3.5) V27(5.5,3.5) V28(6.5,3.5) V29(7.5,3.5) V31(9.5,3.5) V32(10.5,3.5) V33(11.5,3.5) V34(12.5,3.5) V35(13.5,3.5) V36(14.5,3.5) V37(15.5,3.5) V38(16.5,3.5) V39(17.5,3.5) V40(18.5,3.5) V41(19.5,3.5) V42(20.5,3.5) W1(-20.5,2.5) W2(-19.5,2.5) W3(-18.5,2.5) W4(-17.5,2.5) W5(-16.5,2.5) W6(-15.5,2.5) W7(-14.5,2.5) W8(-13.5,2.5) W9(-12.5,2.5) W10(-11.5,2.5) W11(-10.5,2.5) W12(-9.5,2.5) W14(-7.5,2.5) W15(-6.5,2.5) W16(-5.5,2.5) W17(-4.5,2.5) W18(-3.5,2.5) W19(-2.5,2.5) W20(-1.5,2.5) W21(-0.5,2.5) W22(0.5,2.5) W23(1.5,2.5) W24(2.5,2.5) W25(3.5,2.5) W26(4.5,2.5) W27(5.5,2.5) W28(6.5,2.5) W29(7.5,2.5) W31(9.5,2.5) W32(10.5,2.5) W33(11.5,2.5) W34(12.5,2.5) W35(13.5,2.5) W36(14.5,2.5) W37(15.5,2.5) W38(16.5,2.5) W39(17.5,2.5) W40(18.5,2.5) W41(19.5,2.5) W42(20.5,2.5) Y1(-20.5,1.5) Y2(-19.5,1.5) Y3(-18.5,1.5) Y4(-17.5,1.5) Y5(-16.5,1.5) Y6(-15.5,1.5) Y7(-14.5,1.5) Y8(-13.5,1.5) Y9(-12.5,1.5) Y10(-11.5,1.5) Y11(-10.5,1.5) Y12(-9.5,1.5) Y14(-7.5,1.5) Y15(-6.5,1.5) Y16(-5.5,1.5) Y17(-4.5,1.5) Y18(-3.5,1.5) Y19(-2.5,1.5) Y20(-1.5,1.5) Y21(-0.5,1.5) Y22(0.5,1.5) Y23(1.5,1.5) Y24(2.5,1.5) Y25(3.5,1.5) Y26(4.5,1.5) Y27(5.5,1.5) Y28(6.5,1.5) Y29(7.5,1.5) Y31(9.5,1.5) Y32(10.5,1.5) Y33(11.5,1.5) Y34(12.5,1.5) Y35(13.5,1.5) Y36(14.5,1.5) Y37(15.5,1.5) Y38(16.5,1.5) Y39(17.5,1.5) Y40(18.5,1.5) Y41(19.5,1.5) Y42(20.5,1.5)
Top Overlay:
  circle w0.25: c-21.9,20.5 r0.125
  lines w0.2: -21.25,-20.25 -21.25,21.25 20.25,21.25 21.25,20.25 21.25,-20.25 20.25,-21.25 -20.25,-21.25 -21.25,-20.25